# Altium schematic symbol library Schematic Components.SchLib: 1 symbol
Pins are listed as number, name and electrical type; pins without a type are passive.

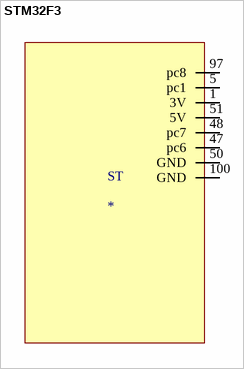
[diagram p0: symbol STM32F3]

## STM32F3
designator ST
STM32F3 base
footprint STM32_MagLev
pins: 1 3V, 5 pc1, 47 pc6, 48 pc7, 50 GND, 51 5V, 97 pc8, 100 GND